# Altium footprint library 嵌入式元件.PcbLib: 20 footprints (part 2 of 2)
Each footprint in its own frame and in the unit in brackets; x right, y up, seen from the top. Pads: shape width x height; smd on the part's side, far side on the other; paste and mask are expansions set on the pad; w line width, h text height; cw(c..) or ccw(c..) is an arc to the next point about the centre after c.
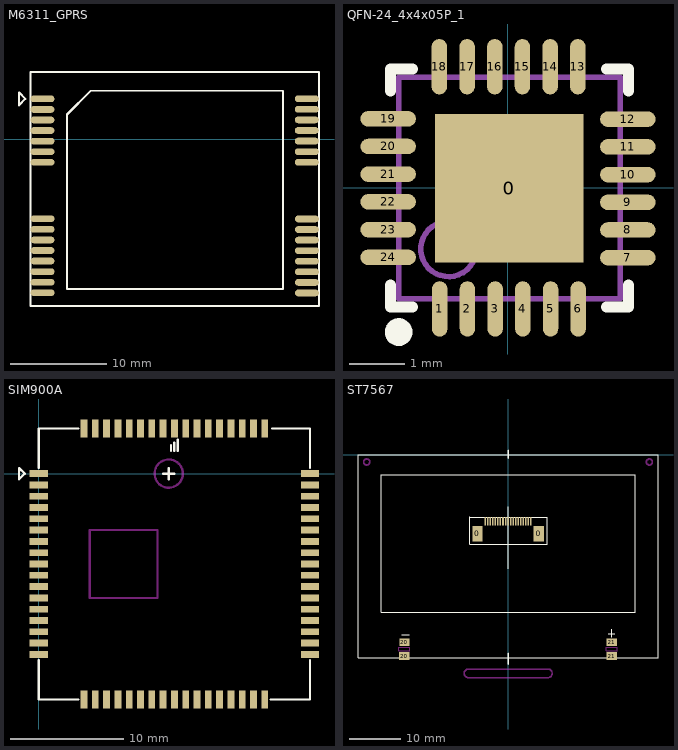
[diagram p1: the footprints below, top view; thin cyan lines are the x and y axes]

## M6311_GPRS [mm]
pads (30):
  oval 2.5x0.7 smd: 1(10.043,4.187) 2(10.043,3.087) 3(10.043,1.987) 4(10.043,0.887) 5(10.043,-0.213) 6(10.043,-1.313) 7(10.043,-2.413) 8(10.048,-8.286) 9(10.048,-9.386) 10(10.048,-10.486) 11(10.048,-11.586) 12(10.048,-12.686) 13(10.048,-13.786) 14(10.048,-14.886) 15(10.048,-15.986) 16(37.554,-16.006) 17(37.554,-14.906) 18(37.554,-13.806) 19(37.554,-12.706) 20(37.554,-11.606) 21(37.554,-10.506) 22(37.554,-9.406) 23(37.554,-8.306) 24(37.539,-2.404) 25(37.539,-1.304) 26(37.539,-0.204) 27(37.539,0.896) 28(37.539,1.996) 29(37.539,3.096) 30(37.539,4.196)
Top Overlay:
  lines w0.2: 12.593,2.575 15.047,5.029 ; 7.608,3.514 7.608,4.858 8.277,4.189 7.608,3.52 7.608,3.514 ; 8.81,-17.341 8.81,6.959 38.81,6.959 38.81,-17.341 8.81,-17.341 ; 12.6,-15.597 12.6,2.546 15.083,5.029 35.076,5.029 35.076,-15.597 12.6,-15.597

## QFN-24_4x4x05P_1 [mm]
height 6
pads (25):
  rect 2.68x2.68 smd mask+0.051: 0(0.026,-0.004)
  oval 0.28x1 smd mask+0.051: 1(-1.232,-2.186) 2(-0.732,-2.186) 3(-0.232,-2.186) 4(0.268,-2.186) 5(0.768,-2.186) 6(1.268,-2.186) 13(1.261,2.186) 14(0.761,2.186) 15(0.261,2.186) 16(-0.239,2.186) 17(-0.739,2.186) 18(-1.239,2.186)
  oval 1x0.28 smd mask+0.051: 7(2.163,-1.261) 8(2.163,-0.761) 9(2.163,-0.261) 10(2.163,0.239) 11(2.163,0.739) 12(2.163,1.239) 19(-2.163,1.246) 20(-2.163,0.746) 21(-2.163,0.246) 22(-2.163,-0.254) 23(-2.163,-0.754) 24(-2.163,-1.254)
Top Overlay:
  circle w0.25: c-1.974,-2.604 r0.125
  lines w0.2: -2.124,-1.754 -2.124,-2.154 -1.724,-2.154 ; -2.124,1.746 -2.124,2.146 -1.724,2.146 ; 1.776,-2.154 2.176,-2.154 2.176,-1.754 ; 1.776,2.146 2.176,2.146 2.176,1.746
Mechanical 13:
  circle w0.1: c-1.074,-1.104 r0.5
  lines w0.1: -1.974,-2.004 -1.974,1.996 2.026,1.996 2.026,-2.004 -1.974,-2.004

## SIM900A [mm]
height 3.81
pads (68):
  rect 1.6x0.6 smd: 1(0,0) 2(0,-1) 3(0,-2) 4(0,-3) 5(0,-4) 6(0,-5) 7(0,-6) 8(0,-7) 9(0,-8) 10(0,-9) 11(0,-10) 12(0,-11) 13(0,-12) 14(0,-13) 15(0,-14) 16(0,-15) 17(0,-16) 35(24,-16) 36(24,-15) 37(24,-14) 38(24,-13) 39(24,-12) 40(24,-11) 41(24,-10) 42(24,-9) 43(24,-8) 44(24,-7) 45(24,-6) 46(24,-5) 47(24,-4) 48(24,-3) 49(24,-2) 50(24,-1) 51(24,0)
  rect 0.6x1.6 smd: 18(4,-20) 19(5,-20) 20(6,-20) 21(7,-20) 22(8,-20) 23(9,-20) 24(10,-20) 25(11,-20) 26(12,-20) 27(13,-20) 28(14,-20) 29(15,-20) 30(16,-20) 31(17,-20) 32(18,-20) 33(19,-20) 34(20,-20) 52(20,4) 53(19,4) 54(18,4) 55(17,4) 56(16,4) 57(15,4) 58(14,4) 59(13,4) 60(12,4) 61(11,4) 62(10,4) 63(9,4) 64(8,4) 65(7,4) 66(6,4) 67(5,4) 68(4,4)
Top Overlay:
  lines w0.2: 11.7,2 11.7,2.5 ; 12,2 12,2.75 ; 12.3,2 12.3,3 ; -1.75,-0.5 -1.25,0 -1.75,0.5 -1.75,-0.5
  lines w0.203: 0,-16.51 0,-20 3.495,-20 ; 0,0.508 0,4 3.493,4 ; 11,0 12,0 ; 11.5,-0.5 11.5,0.5 ; 20.508,-20 24,-20 24,-16.513 ; 20.637,4 24,4 24,0.511 ; -1.75,-0.5 -1.75,0.5 -1.25,0 -1.75,-0.5
Keep-Out Layer:
  circle w0.203: c11.5,0 r1.25
  lines w0.203: 4.5,-11 4.5,-5 10.5,-5 10.5,-11 4.5,-11

## ST7567 [mm]
pads (25):
  rect 2x3 smd: 0(-6.039,-15.595) 0(6.041,-15.595)
  rect 0.3x1.7 smd: 1(-4.499,-13.12) 2(-3.999,-13.12) 3(-3.499,-13.12) 4(-2.999,-13.12) 5(-2.499,-13.12) 6(-1.999,-13.12) 7(-1.499,-13.12) 8(-0.999,-13.12) 9(-0.499,-13.12) 10(0.001,-13.12) 11(0.501,-13.12) 12(1.001,-13.12) 13(1.501,-13.12) 14(2.001,-13.12) 15(2.501,-13.12) 16(3.001,-13.12) 17(3.501,-13.12) 18(4.001,-13.12) 19(4.501,-13.12)
  rect 2x1.5 smd: 20(-20.407,-39.631) 20(-20.39,-36.894) 21(20.385,-36.886) 21(20.394,-39.634)
Top Overlay:
  lines w0.2: -20.945,-35.431 -19.405,-35.431 ; -7.524,-12.307 7.676,-12.307 ; -7.499,-12.282 -7.499,-17.657 7.701,-17.657 7.701,-12.307 ; -0.007,-22.438 0.001,-10.3 ; 19.671,-35.272 21.023,-35.272 ; 20.372,-35.973 20.372,-34.371 ; -29.516,-40.004 29.484,-40.004 29.484,-0.004 -29.492,-0.004 -29.492,-17.003 -29.492,-40.004 -29.516,-40.004 ; -24.992,-31.004 25.008,-31.004 25.008,-4.004 -24.992,-4.004 -24.992,-31.004
  lines w0.3: 0.008,-0.778 0.008,0.817 ; 0.02,-41.208 0.02,-39.101
Keep-Out Layer:
  circle w0.254: c27.788,-1.469 r0.6
  circle w0.254: c-27.801,-1.469 r0.6
  lines w0.2: -21.412,-37.905 -21.41,-37.905 ; -21.41,-37.903 -21.408,-37.903 ; 19.384,-37.903 19.386,-37.903 ; -21.508,-38.612 -19.308,-38.612 -19.308,-37.903 -21.508,-37.903 -21.508,-38.612 ; 19.286,-38.612 19.286,-37.903 21.486,-37.903 21.486,-38.612 19.286,-38.612
  lines w0.254: -7.981,-42.209 ccw(c-7.79,-43.035) -7.98,-43.861 ; 8.02,-42.209 cw(c7.83,-43.035) 8.021,-43.861
  lines w0.3: -7.979,-43.861 8.021,-43.861 ; -7.98,-42.209 0.02,-42.209 8.02,-42.209